# Altium schematic symbol library passives.SchLib: 8 symbols
Pins are listed as number, name and electrical type; pins without a type are passive.

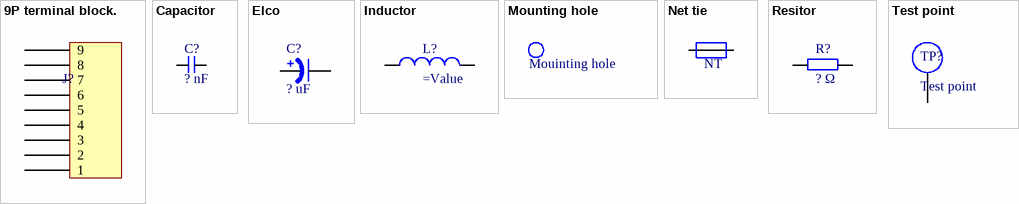
[diagram p0: symbols 9P terminal block. to Test point]

## 9P terminal block.
designator J?  (value not drawn)
3.50mm 9p terminal block; Name: 9P Terminal block
footprint 9P terminal block 3.50mm (Stelvio 9P terminal block)
pins: 1, 2, 3, 4, 5, 6, 7, 8, 9

## Capacitor
designator C?, comment ? nF
Generic MLCC; Value: ? nF; Manufacturer article no.: *; Name: MLCC
footprint 1210 MLCC (1210)
footprint 1206 MLCC (1206)
footprint 0805 mlcc (0805)
pins: 1, 2

## Elco
designator C?, comment ? uF
Electrolytic capacitor; Value: ? uF; Name: Electrolytic capacitor
footprint CAPAE113105X100M (Aluminum Electrolytic Capacitor, Body 10.30x10.50x10.00mm, IPC Low Density)
footprint Radial 13x20 (TEAPO Radial 13x20)
footprint RADIAL 8x11 (TEAPO RADIAL 8x11)
pins: 1, 2

## Inductor
designator L?
Generic inductor; Name: Inductor
footprint 0805 RES (0805)
pins: 1, 2

## Mounting hole
designator MH?, comment Mouinting hole  (no BOM)
Mounting hole; Name: Mounting hole
footprint MH (M2 mounting hole)

## Net tie
designator NT ?, comment NT  (net tie, no BOM)
Net tie; Name: Net tie
footprint 10mil net tie
footprint 50mil net tie
footprint 500mil net tie (Net Tie 500)
pins: 1, 2

## Resitor
designator R?, comment ? Ω
Generic SMD resistor; Value: ? Ω; Name: Resistor
footprint 0805 RES (0805)
footprint 1206 RES (1206)
footprint 0603 RES (0603)
pins: 1, 2

## Test point
designator TP?
Name: Test point
footprint Test point
pins: 1